# Altium footprint library tps61201_2.PcbLib: 1 footprints
Each footprint in its own frame and in the unit in brackets; x right, y up, seen from the top. Pads: shape width x height; smd on the part's side, far side on the other; paste and mask are expansions set on the pad; w line width, h text height; cw(c..) or ccw(c..) is an arc to the next point about the centre after c.
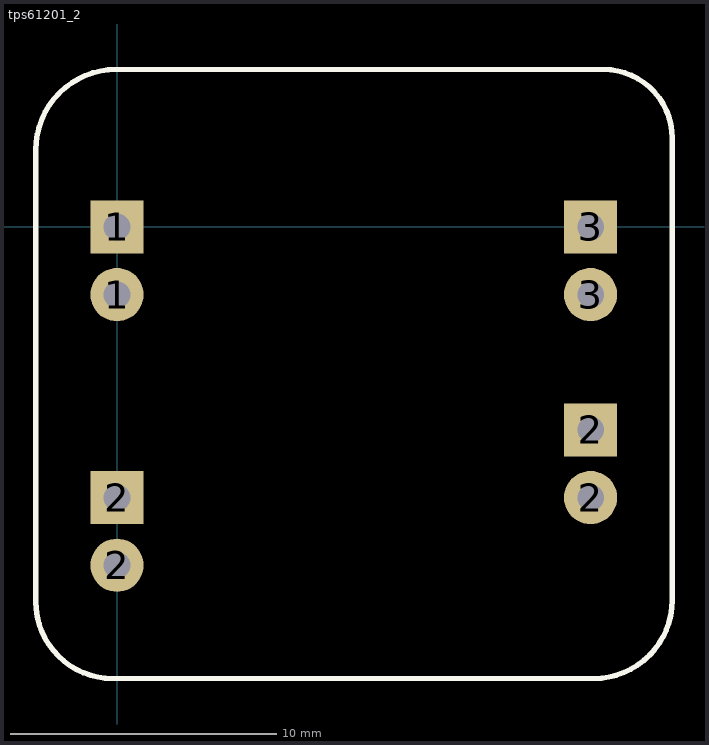
[diagram p0: the footprint, top view; thin cyan lines are the x and y axes]

## tps61201_2 [mm]
pads (8):
  round 2 hole 1: 1(0,-2.54) 2(0,-12.7) 2(17.78,-10.16) 3(17.78,-2.54)
  rect 2x2 hole 1: 1(0,0) 2(0,-10.16) 2(17.78,-7.62) 3(17.78,0)
Top Overlay:
  lines w0.2: -3.048,-14.064 ccw(c-0.157,-14.064) -0.157,-16.954 17.899,-16.954 ccw(c17.899,-14.011) 20.843,-14.011 20.843,3.338 ccw(c18.268,3.338) 18.268,5.913 -0.033,5.913 ccw(c-0.033,2.898) -3.048,2.898 -3.048,-14.064
3D body "tps61201_2.step": height 6.27, standoff -5.92, extent -3.048,-16.955 20.843,5.913